# EAGLE library part CON10 (library simple-parts)
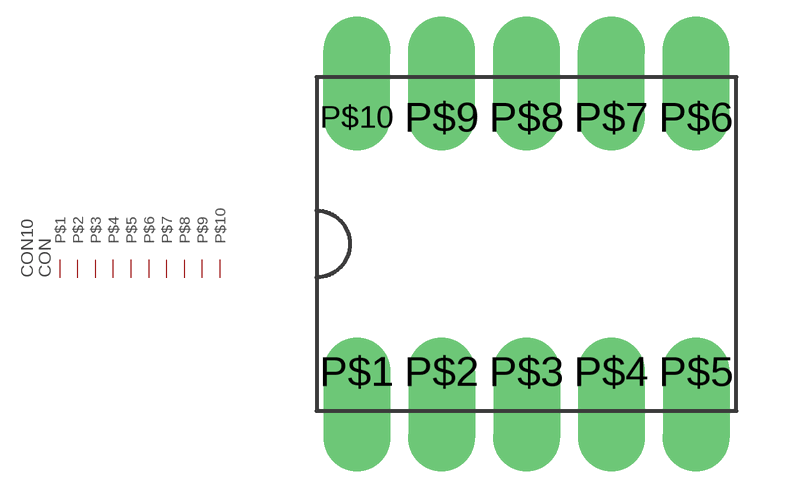
[diagram p8: symbol with the pads of ICMOUNT10; footprint ICMOUNT10]

Designator prefix CON

## CON10ICMOUNT10  [ICMOUNT10]
P$1  P$1
P$2  P$2
P$3  P$3
P$4  P$4
P$5  P$5
P$6  P$6
P$7  P$7
P$8  P$8
P$9  P$9
P$10  P$10

## Footprint ICMOUNT10 (pad centres in mm)
drill 0.9 pad 2 offset: P$1 -5.08,-3.81; P$2 -2.54,-3.81; P$3 0,-3.81; P$4 2.54,-3.81; P$5 5.08,-3.81; P$6 5.08,3.81; P$7 2.54,3.81; P$8 0,3.81; P$9 -2.54,3.81; P$10 -5.08,3.81